# Altium footprint library PcbLib1.PcbLib: 259 footprints (part 5 of 17)
Each footprint in its own frame and in the unit in brackets; x right, y up, seen from the top. Pads: shape width x height; smd on the part's side, far side on the other; paste and mask are expansions set on the pad; w line width, h text height; cw(c..) or ccw(c..) is an arc to the next point about the centre after c.
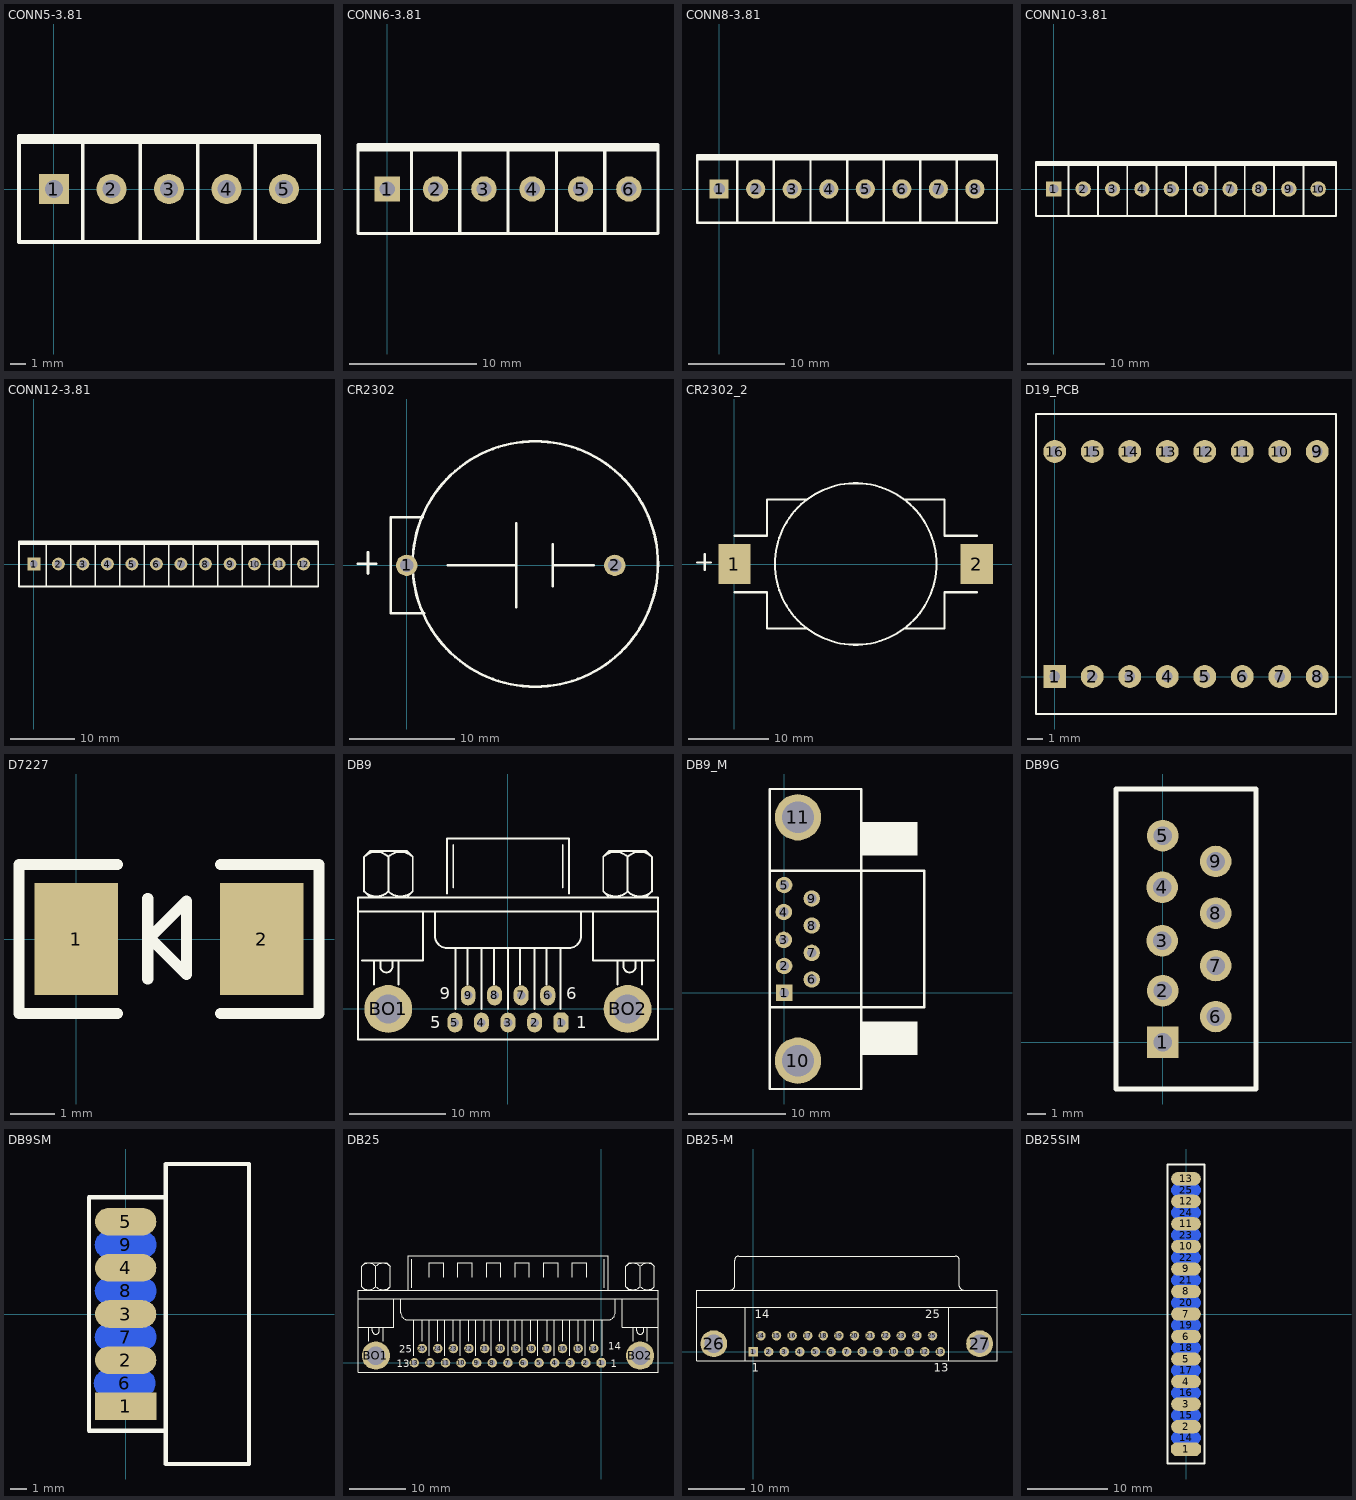
[diagram p4: the footprints below, top view; thin cyan lines are the x and y axes]

## CONN5-3.81 [mm]
pads (5):
  rect 2x2 hole 1.2: 1(0,0)
  round 2 hole 1.2: 2(3.81,0) 3(7.62,0) 4(11.43,0) 5(15.24,0)
Top Overlay:
  rectangle: -2.31,2.97 17.55,3.45
  lines w0.254: 1.905,-3.5 1.905,3.34 ; 5.715,-3.42 5.715,3.42 ; 9.525,-3.5 9.525,3.32 ; 13.335,-3.5 13.335,3.34 ; -2.3,-3.5 17.54,-3.5 17.54,3.5 -2.3,3.5 -2.3,-3.5

## CONN6-3.81 [mm]
pads (6):
  rect 2x2 hole 1.2: 1(0,0)
  round 2 hole 1.2: 2(3.81,0) 3(7.62,0) 4(11.43,0) 5(15.24,0) 6(19.05,0)
Top Overlay:
  rectangle: -2.31,2.97 21.34,3.45
  lines w0.254: 1.905,-3.5 1.905,3.34 ; 5.715,-3.42 5.715,3.42 ; 9.13,-3.5 21.35,-3.5 21.35,3.5 9.13,3.5 ; 9.525,-3.5 9.525,3.5 ; 9.56,-3.5 -2.3,-3.5 -2.3,3.5 9.56,3.5 ; 13.335,-3.5 13.335,3.34 ; 17.145,-3.42 17.145,3.42

## CONN8-3.81 [mm]
pads (8):
  rect 2x2 hole 1.2: 1(0,0)
  round 2 hole 1.2: 2(3.81,0) 3(7.62,0) 4(11.43,0) 5(15.24,0) 6(19.05,0) 7(22.86,0) 8(26.67,0)
Top Overlay:
  rectangle: 12.93,2.97 28.92,3.45
  rectangle: -2.31,2.97 13.68,3.45
  lines w0.254: 1.905,-3.5 1.905,3.34 ; 5.715,-3.42 5.715,3.42 ; 9.525,-3.5 9.525,3.5 ; 13.33,-3.5 28.97,-3.5 28.97,3.5 ; 13.33,3.5 28.87,3.5 ; 13.335,-3.5 13.335,3.5 ; 13.63,3.5 -2.3,3.5 -2.3,-3.5 13.73,-3.5 ; 17.145,-3.5 17.145,3.34 ; 20.955,-3.42 20.955,3.42 ; 24.765,-3.5 24.765,3.5

## CONN10-3.81 [mm]
pads (10):
  rect 2x2 hole 1.2: 1(0,0)
  round 2 hole 1.2: 2(3.81,0) 3(7.62,0) 4(11.43,0) 5(15.24,0) 6(19.05,0) 7(22.86,0) 8(26.67,0) 9(30.48,0) 10(34.29,0)
Top Overlay:
  rectangle: 16.74,2.97 36.6,3.45
  rectangle: -2.31,2.97 17.55,3.45
  lines w0.254: 1.905,-3.5 1.905,3.34 ; 5.715,-3.42 5.715,3.42 ; 9.525,-3.5 9.525,3.32 ; 13.335,-3.5 13.335,3.34 ; 17.145,-3.5 17.145,3.5 ; 17.19,-3.5 36.59,-3.5 36.59,3.5 17.19,3.5 ; 17.54,-3.5 -2.3,-3.5 -2.3,3.5 17.54,3.5 ; 20.955,-3.5 20.955,3.34 ; 24.765,-3.42 24.765,3.42 ; 28.575,-3.5 28.575,3.32 ; 32.385,-3.5 32.385,3.34

## CONN12-3.81 [mm]
pads (12):
  rect 2x2 hole 1.2: 1(0,0)
  round 2 hole 1.2: 2(3.81,0) 3(7.62,0) 4(11.43,0) 5(15.24,0) 6(19.05,0) 7(22.86,0) 8(26.67,0) 9(30.48,0) 10(34.29,0) 11(38.1,0) 12(41.91,0)
Top Overlay:
  rectangle: -2.31,2.97 17.55,3.45
  rectangle: 16.74,2.97 44.31,3.45
  lines w0.254: 1.905,-3.5 1.905,3.34 ; 5.715,-3.42 5.715,3.42 ; 9.525,-3.5 9.525,3.32 ; 13.335,-3.5 13.335,3.34 ; 17.145,-3.5 17.145,3.5 ; 17.19,-3.5 44.21,-3.5 44.21,3.5 17.19,3.5 ; 17.54,-3.5 -2.3,-3.5 -2.3,3.5 17.54,3.5 ; 20.955,-3.5 20.955,3.34 ; 24.765,-3.42 24.765,3.42 ; 28.575,-3.5 28.575,3.32 ; 32.385,-3.5 32.385,3.34 ; 36.59,-3.5 36.59,3.5 ; 40.005,-3.5 40.005,3.34

## CR2302 [mil]
pads (2):
  round 80 hole 50: 1(0,0) 2(780,0)
Top Overlay:
  circle w10: c482,5 r460
  lines w10: -182.68,6.3 -114.17,6.3 ; -144.88,-30.32 -144.88,48.69 ; 60,180 -60,180 -60,-180 66,-180 ; 155,0 411,0 ; 411,-157 411,157 ; 546.92,-78 546.92,78 ; 548.31,0 700,0

## CR2302_2 [mm]
pads (2):
  rect 4x5 smd: 1(0,0) 2(30,0)
Top Overlay:
  circle w0.254: c15,0 r10
  lines w0.254: -4.64,0.16 -2.9,0.16 ; -3.68,-0.77 -3.68,1.237 ; 0,-3.5 4,-3.5 4,-8 8.9,-8 ; 0,3.5 4,3.5 4,8 8.96,8 ; 21.04,-8 26,-8 26,-3.5 30,-3.5 ; 21.1,8 26,8 26,3.5 30,3.5

## D19_PCB [mm]
pads (16):
  rect 1.524x1.524 hole 0.7: 1(0,0)
  round 1.524 hole 0.7: 2(2.5,0) 3(5,0) 4(7.5,0) 5(10,0) 6(12.5,0) 7(15,0) 8(17.5,0) 9(17.5,15) 10(15,15) 11(12.5,15) 12(10,15) 13(7.5,15) 14(5,15) 15(2.5,15) 16(0,15)
Top Overlay:
  lines w0.12: -1.25,-2.5 18.75,-2.5 18.75,17.5 -1.25,17.5 -1.25,-2.5

## D7227 [mm]
pads (2):
  rect 1.905x2.54 smd: 1(0,0) 2(4.23,0)
Top Overlay:
  lines w0.254: 0.94,-1.7 -1.3,-1.7 -1.3,1.7 0.94,1.7 ; 1.63,-0.91 1.63,0.92 ; 1.65,0 2.51,0.86 2.51,-0.81 1.7,0 ; 3.29,-1.7 5.53,-1.7 5.53,1.7 3.29,1.7

## DB9 [mil]
pads (11):
  oct 62x82 hole 35: 1(218.75,-55.83)
  oval 62x82 hole 35: 2(109.58,-55.83) 3(0.42,-55.83) 4(-108.75,-55.83) 5(-217.92,-55.83) 6(163.75,55.83) 7(54.58,55.83) 8(-54.58,55.83)
  oval 60x82 hole 35: 9(-163.75,55.83)
  round 196.67 hole 118.33: BO1(-492.08,0) BO2(492.08,0)
Top Overlay:
  lines w8: -616.25,400 617.08,400 ; -599.58,200 -349.58,200 -349.58,400 ; -591.34,483.25 ccw(c-541.25,533.33) -491.16,483.25 ; -591.34,625.09 cw(c-541.25,575) -491.16,625.09 ; -566.25,458.33 -591.25,483.33 -591.25,625 -566.25,650 -416.25,650 -391.25,625 -391.25,483.33 -416.25,458.33 ; -549.58,100 -549.58,200 ; -524.58,200 -524.58,175 ccw(c-499.58,175) -474.58,175 -474.58,200 ; -491.34,483.25 ccw(c-441.25,533.33) -391.16,483.25 ; -491.34,625.09 cw(c-441.25,575) -391.16,625.09 ; -491.25,483.33 -491.25,625 ; -449.58,100 -449.58,200 ; -299.58,400 -299.58,300 ccw(c-249.58,300) -249.58,250 250.42,250 ccw(c250.42,300) 300.42,300 300.42,400 ; -249.58,475 -249.58,700 250.42,700 250.42,475 ; -224.58,500 -224.58,675 ; -216.25,0 -216.25,250 ; -166.25,100 -166.25,250 ; -107.92,0 -107.92,250 ; -57.92,100 -57.92,250 ; 0.42,0 0.42,250 ; 50.42,100 50.42,250 ; 108.75,0 108.75,250 ; 158.75,100 158.75,250 ; 217.08,0 217.08,250 ; 225.42,500 225.42,675 ; 350.42,400 350.42,200 600.42,200 ; 392,483.25 ccw(c442.08,533.33) 492.17,483.25 ; 392,625.09 cw(c442.08,575) 492.17,625.09 ; 417.08,458.33 392.08,483.33 392.08,625 417.08,650 567.08,650 592.08,625 592.08,483.33 567.08,458.33 ; 450.42,100 450.42,200 ; 475.42,200 475.42,175 ccw(c500.42,175) 525.42,175 525.42,200 ; 492,483.25 ccw(c542.08,533.33) 592.17,483.25 ; 492,625.09 cw(c542.08,575) 592.17,625.09 ; 492.08,483.33 492.08,625 ; 550.42,100 550.42,200 ; -616.25,-125 617.08,-125 617.08,458.33 -616.25,458.33 -616.25,-125
  text "6" at 240.42,40 h50
  text "1" at 280.42,-80 h50
  text "5" at -319.58,-80 h50
  text "9" at -279.58,40 h50

## DB9_M [mm]
pads (11):
  rect 1.69x1.69 hole 1: 1(0,0)
  round 1.69 hole 1: 2(0,2.77) 3(-0.03,5.45) 4(-0.03,8.31) 5(0,11.08) 6(2.84,1.385) 7(2.84,4.115) 8(2.84,6.925) 9(2.84,9.695)
  round 4.76 hole 3.26: 10(1.42,-6.955) 11(1.42,18.035)
Top Overlay:
  rectangle: 8.05,-6.38 13.71,-2.94
  rectangle: 7.92,14.1 13.71,17.54
  lines w0.254: -1.48,-1.46 7.81,-1.46 ; -1.48,12.54 7.87,12.54 ; 6.94,-1.46 14.38,-1.47 14.39,12.54 7.61,12.54 ; -1.48,-9.86 7.92,-9.86 7.92,20.94 -1.48,20.94 -1.48,-9.86

## DB9G [mm]
pads (9):
  rect 1.69x1.69 hole 1: 1(0,0)
  round 1.69 hole 1: 2(0,2.77) 3(-0.03,5.45) 4(-0.03,8.31) 5(0,11.08) 6(2.84,1.385) 7(2.84,4.115) 8(2.84,6.925) 9(2.84,9.695)
Top Overlay:
  lines w0.254: -2.5,-2.5 -2.5,13.58 5,13.58 5,-2.5 -2.5,-2.5

## DB9SM [mil]
pads (9):
  rect 145x65 smd: 1(0,-218.11)
  oval 145x65 smd: 2(0,-109.06) 3(0,0) 4(0,109.06) 5(0,218.11)
  oval 145x65 smd far side: 6(-2.36,-163.58) 7(0,-54.53) 8(0,54.53) 9(0,163.58)
Top Overlay:
  lines w10: 94.49,-275.59 -86.61,-275.59 -86.61,275.59 94.49,275.59 ; 94.49,-354.33 94.49,354.33 291.34,354.33 291.34,-354.33 94.49,-354.33

## DB25 [mm]
pads (27):
  oct 1.69x1.69 hole 1: 1(0,0)
  round 1.69 hole 1: 2(-2.773,0) 3(-5.546,0) 4(-8.319,0) 5(-11.091,0) 6(-13.864,0) 7(-16.637,0) 8(-19.41,0) 9(-22.183,0) 10(-24.955,0) 11(-27.728,0) 12(-30.501,0) 13(-33.274,0) 14(-1.376,2.54) 15(-4.149,2.54) 16(-6.921,2.54) 17(-9.694,2.54) 18(-12.467,2.54) 19(-15.24,2.54) 20(-18.013,2.54) 21(-20.786,2.54) 22(-23.558,2.54) 23(-26.331,2.54) 24(-29.104,2.54) 25(-31.877,2.54)
  round 4.995 hole 3.26: BO1(-40.111,1.27) BO2(6.879,1.27)
Top Overlay:
  lines w0.203: -43.286,6.35 -36.936,6.35 -36.936,11.43 ; -43.286,11.43 10.054,11.43 ; -42.653,13.544 ccw(c-41.381,14.817) -40.109,13.544 ; -42.653,17.147 cw(c-41.381,15.875) -40.109,17.147 ; -42.016,12.912 -42.651,13.547 -42.651,17.145 -42.016,17.78 -38.206,17.78 -37.571,17.145 -37.571,13.547 -38.206,12.912 ; -41.381,3.81 -41.381,6.35 ; -40.746,6.35 -40.746,5.715 ccw(c-40.111,5.715) -39.476,5.715 -39.476,6.35 ; -40.113,13.544 ccw(c-38.841,14.817) -37.569,13.544 ; -40.113,17.147 cw(c-38.841,15.875) -37.569,17.147 ; -40.111,13.547 -40.111,17.145 ; -38.841,3.81 -38.841,6.35 ; -35.666,11.43 -35.666,8.89 ccw(c-34.396,8.89) -34.396,7.62 1.164,7.62 ccw(c1.164,8.89) 2.434,8.89 2.434,11.43 ; -34.396,12.912 -34.396,19.05 1.164,19.05 1.164,12.912 ; -33.761,13.335 -33.761,18.415 ; -33.337,1.27 -33.337,7.62 ; -31.856,3.81 -31.856,7.62 ; -30.586,1.27 -30.586,7.62 ; -30.586,15.24 -30.586,17.78 -28.046,17.78 -28.046,15.24 ; -29.104,3.81 -29.104,7.62 ; -27.834,1.27 -27.834,7.62 ; -26.352,3.81 -26.352,7.62 ; -25.506,15.24 -25.506,17.78 -22.966,17.78 -22.966,15.24 ; -25.082,1.27 -25.082,7.62 ; -23.601,3.81 -23.601,7.62 ; -22.331,1.27 -22.331,7.62 ; -20.849,3.81 -20.849,7.62 ; -20.426,15.24 -20.426,17.78 -17.886,17.78 -17.886,15.24 ; -19.579,1.27 -19.579,7.62 ; -18.097,3.81 -18.097,7.62 ; -16.616,1.27 -16.616,7.62 ; -15.346,3.81 -15.346,7.62 ; -15.346,15.24 -15.346,17.78 -12.806,17.78 -12.806,15.24 ; -14.076,1.27 -14.076,7.62 ; -12.594,3.81 -12.594,7.62 ; -11.324,1.27 -11.324,7.62 ; -10.266,15.24 -10.266,17.78 -7.726,17.78 -7.726,15.24 ; -9.631,3.81 -9.631,7.62 ; -8.361,1.27 -8.361,7.62 ; -6.879,3.81 -6.879,7.62 ; -5.609,1.27 -5.609,7.62 ; -5.186,15.24 -5.186,17.78 -2.646,17.78 -2.646,15.24 ; -4.127,3.81 -4.127,7.62 ; -2.857,1.27 -2.857,7.62 ; -1.376,3.81 -1.376,7.62 ; 0.106,1.27 0.106,7.62 ; 0.529,13.335 0.529,18.415 ; 3.704,11.43 3.704,6.35 10.054,6.35 ; 4.337,13.544 ccw(c5.609,14.817) 6.881,13.544 ; 4.337,17.147 cw(c5.609,15.875) 6.881,17.147 ; 4.974,12.912 4.339,13.547 4.339,17.145 4.974,17.78 8.784,17.78 9.419,17.145 9.419,13.547 8.784,12.912 ; 5.609,3.81 5.609,6.35 ; 6.244,6.35 6.244,5.715 ccw(c6.879,5.715) 7.514,5.715 7.514,6.35 ; 6.877,13.544 ccw(c8.149,14.817) 9.421,13.544 ; 6.877,17.147 cw(c8.149,15.875) 9.421,17.147 ; 6.879,13.547 6.879,17.145 ; 8.149,3.81 8.149,6.35 ; -43.286,-1.693 10.054,-1.693 10.054,12.912 -43.286,12.912 -43.286,-1.693
  text "25" at -35.92,1.778 h1.27
  text "13" at -36.428,-0.762 h1.27
  text "1" at 1.672,-0.762 h1.27
  text "14" at 1.164,2.286 h1.27

## DB25-M [mm]
pads (27):
  rect 1.69x1.69 hole 1: 1(0,0)
  round 1.69 hole 1: 2(2.761,0) 3(5.522,0) 4(8.283,0) 5(11.044,0) 6(13.805,0) 7(16.566,0) 8(19.327,0) 9(22.088,0) 10(24.849,0) 11(27.61,0) 12(30.371,0) 13(33.132,0) 14(1.381,2.84) 15(4.142,2.84) 16(6.903,2.84) 17(9.664,2.84) 18(12.424,2.84) 19(15.185,2.84) 20(17.946,2.84) 21(20.707,2.84) 22(23.469,2.84) 23(26.23,2.84) 24(28.991,2.84) 25(31.752,2.84)
  round 4.76 hole 3.26: 26(-6.96,1.42) 27(40.092,1.42)
Top Overlay:
  lines w0.2: -9.93,7.92 43.17,7.92 ; -3.975,10.925 ccw(c-3.975,11.62) -3.28,11.62 -3.28,16.22 ; -3.275,16.225 cw(c-2.58,16.225) -2.58,16.92 35.82,16.92 cw(c35.82,16.225) 36.515,16.225 ; -1.38,-1.58 -1.38,7.92 ; 34.62,-1.58 34.62,7.92 ; 36.52,16.22 36.52,11.62 ccw(c37.215,11.62) 37.215,10.925 ; -9.93,-1.58 -9.93,10.92 43.17,10.92 43.17,-1.58 -9.93,-1.58
  text "25" at 30.502,5.945 h1.5
  text "14" at 0.256,5.945 h1.5
  text "13" at 32.007,-3.555 h1.5
  text "1" at -0.25,-3.555 h1.5

## DB25SIM [mil]
pads (25):
  oct 145x65 smd: 1(0,-660)
  oval 145x65 smd: 2(0,-550) 3(0,-440) 4(0,-330) 5(0,-220) 6(0,-110) 7(0,0) 8(0,110) 9(0,220) 10(0,330) 11(0,440) 12(0,550) 13(0,660)
  oval 145x65 smd far side: 14(0,-605) 15(0,-495) 16(0,-385) 17(0,-275) 18(0,-165) 19(0,-55) 20(0,55) 21(0,165) 22(0,275) 23(0,385) 24(0,495) 25(0,605)
Top Overlay:
  lines w10: -90,730 -90,-730 90,-730 90,730 -89.76,729.92